# EAGLE library part AD8666ARZ (library IC_Linear)
16 V, 4 MHz RR0 Amplifiers Datasheet <https://www.mouser.in/datasheet/2/609/AD8665_AD8666_AD8668-1502397.pdf>
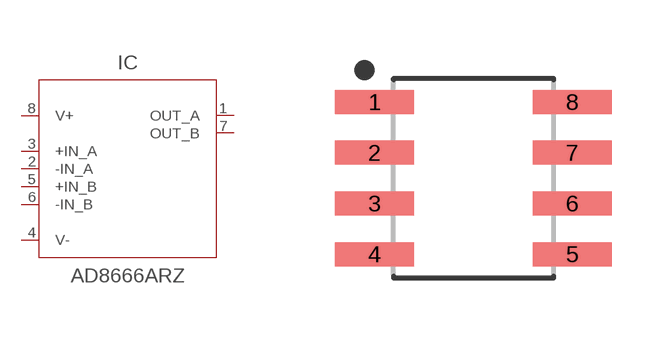
[diagram p4: symbol with the pads of SOIC127P600X175-8N; footprint SOIC127P600X175-8N]

Designator prefix IC

## AD8666ARZSOIC_N (CATEGORY: IC_Linear; MANUFACTURER: Analog Devices; MPN: AD8666ARZ; OPERATING_TEMP: -40 to +125 °C; PART_STATUS: Activre; ROHS_COMPLIANT: RoHS3 Compliant; SUB-CATEGORY: Op-Amp)  [SOIC127P600X175-8N]
1  OUT_A  out
2  -IN_A  in
3  +IN_A  in
4  V-  pwr
5  +IN_B  in
6  -IN_B  in
7  OUT_B  out
8  V+  pwr

## Footprint SOIC127P600X175-8N (pad centres in mm)
8-SOIC, 1.27 mm pitch, 6.00 mm span, 4.90 X 3.90 X 1.75 mm body 8-pin SOIC package with 1.27 mm pitch, 6.00 mm span with body size 4.90 X 3.90 X 1.75 mm
smd 1.968 x 0.599: 1 -2.473,1.905; 2 -2.473,0.635; 3 -2.473,-0.635; 4 -2.473,-1.905; 5 2.473,-1.905; 6 2.473,-0.635; 7 2.473,0.635; 8 2.473,1.905